# Altium footprint library Bridge.PcbLib: 7 footprints
Each footprint in its own frame and in the unit in brackets; x right, y up, seen from the top. Pads: shape width x height; smd on the part's side, far side on the other; paste and mask are expansions set on the pad; w line width, h text height; cw(c..) or ccw(c..) is an arc to the next point about the centre after c.
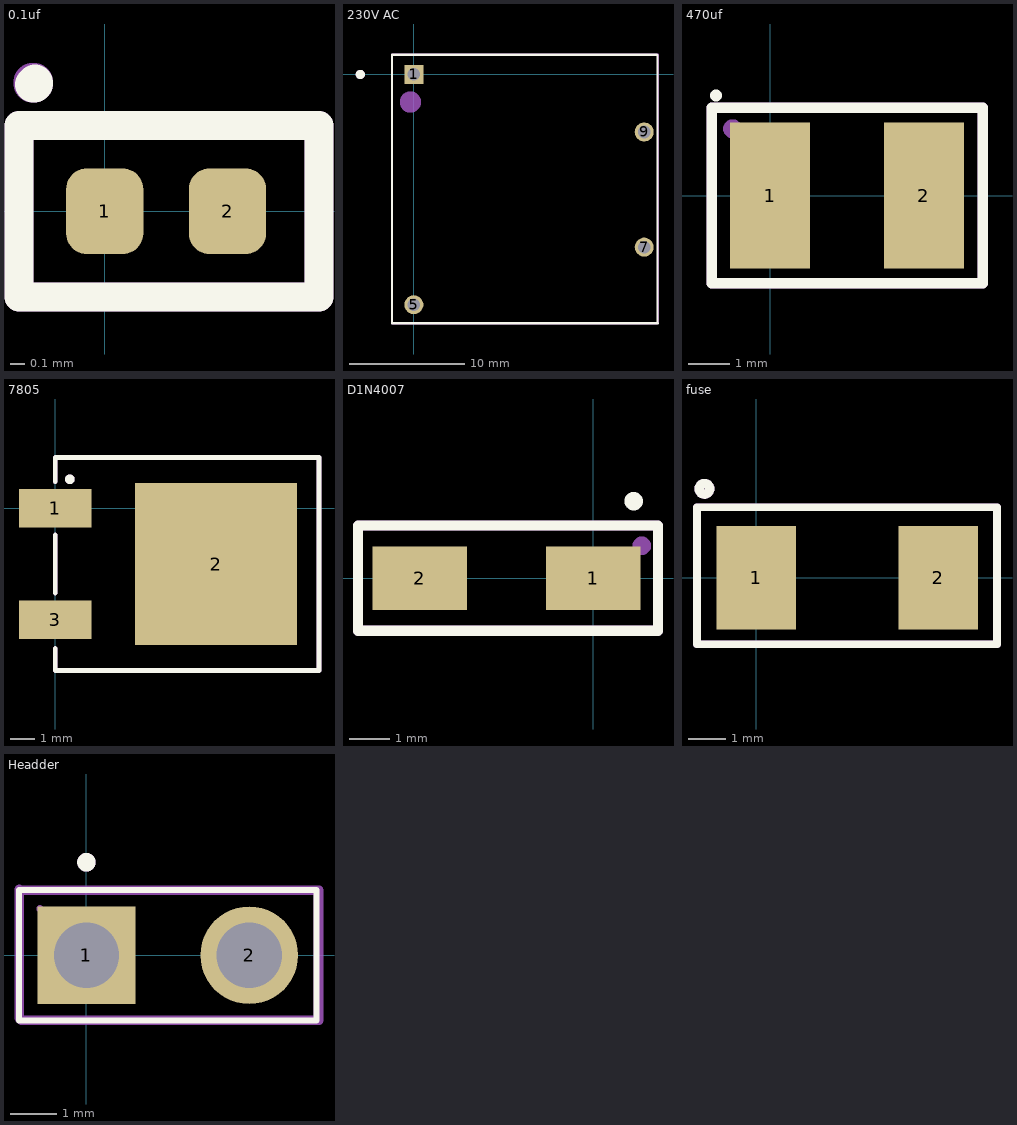
[diagram p0: the footprints below, top view; thin cyan lines are the x and y axes]

## 0.1uf [mm]
pads (2):
  rrect53% 0.54x0.6 smd: 1(0,0) 2(0.86,0)
Top Overlay:
  lines w0.203: -0.6,-0.6 1.5,-0.6 1.5,0.6 -0.6,0.6 -0.6,-0.6
  lines w0.254: -0.5,0.887 ccw(c-0.5,0.9) -0.487,0.9
Mechanical 29 (Mech29):
  circle w0.254: c-0.5,0.9 r0.013
  lines w0.203: -0.6,-0.6 1.5,-0.6 1.5,0.6 -0.6,0.6 -0.6,-0.6
  text ".Designator" at -0.449,-0.165 h0.25
3D body "CC0402N_YAG.step": height 0.52, standoff 0.01, extent -0.078,-0.356 0.938,0.355

## 230V AC [mm]
pads (4):
  rect 1.65x1.65 hole 1.1: 1(0,0)
  round 1.65 hole 1.1: 5(0,-20) 7(20,-15) 9(20,-5)
Top Overlay:
  circle w0.4: c-4.65,0 r0.2
  lines w0.203: -1.9,-21.6 -1.9,1.7 21.106,1.7 21.153,1.653 21.153,-21.553 21.2,-21.6 -1.9,-21.6
Mechanical 29:
  circle w0.4: c-4.65,0 r0.2
Mechanical 29 (Mech29):
  circle w1.27: c-0.3,-2.4 r0.283
  lines w0.203: -1.9,-21.6 -1.9,1.7 21.2,1.7 21.2,-21.514 21.114,-21.6 -1.9,-21.6
  text ".Designator" at 2.654,-11.123 h1.27
3D body "RAC05-12SK-277--3DModel-STEP-1.STEP": height 21.81, standoff -3.99, extent -3.397,-25.927 23.303,5.773

## 470uf [mm]
pads (2):
  rect 1.92x3.51 smd: 1(0,0) 2(3.684,0)
Top Overlay:
  circle w0.254: c-1.3,2.4 r0.013
  lines w0.254: -1.4,-2.1 -1.4,2.1 5.1,2.1 5.1,-2.1 -1.4,-2.1
Mechanical 29 (Mech29):
  circle w0.254: c-0.9,1.6 r0.1
  lines w0.254: -1.4,-2.1 -1.4,2.1 5.1,2.1 5.1,-2.1 -1.4,-2.1
  text ".Designator" at 0.054,-0.323 h1.27
3D body "AMK432BJ477MM-T--3DModel-STEP-46669.STEP": height 2.68, standoff -0.02, extent -0.25,-1.6 4.25,1.6

## 7805 [mm]
pads (3):
  rect 3x1.6 smd: 1(0,0) 3(0,-4.6)
  rect 6.7x6.7 smd: 2(6.65,-2.3)
Top Overlay:
  circle w0.2: c0.6,1.2 r0.1
  lines w0.203: 0,-5.8 0,-6.7 10.9,-6.7 10.9,2.1 0,2.1 0,1.1 ; 0,-3.5 0,-1.1
Top Paste:
  region: 7.44,-3.09 5.86,-3.09 5.86,-1.51 7.44,-1.51
  region: 7.44,-0.86 5.86,-0.86 5.86,0.72 7.44,0.72
  region: 7.44,-5.32 5.86,-5.32 5.86,-3.74 7.44,-3.74
  region: 5.21,-3.09 3.63,-3.09 3.63,-1.51 5.21,-1.51
  region: 5.21,-0.86 3.63,-0.86 3.63,0.72 5.21,0.72
  region: 5.21,-5.32 3.63,-5.32 3.63,-3.74 5.21,-3.74
  region: 9.67,-3.09 8.09,-3.09 8.09,-1.51 9.67,-1.51
  region: 9.67,-0.86 8.09,-0.86 8.09,0.72 9.67,0.72
  region: 9.67,-5.32 8.09,-5.32 8.09,-3.74 9.67,-3.74
Mechanical 29:
  circle w0.2: c0.6,1.2 r0.1
  lines w0.203: 0,-5.8 0,-6.7 10.9,-6.7 10.9,2.1 0,2.1 0,1.1 ; 0,-3.5 0,-1.1
  text ".Designator" at 2.754,-2.623 h1.27
3D body "DPAK_STM.step": height 2.48, standoff 0.01, extent 0.542,-5.602 9.308,1.002

## D1N4007 [mm]
pads (2):
  rect 2.33x1.56 smd: 1(0,0) 2(-4.28,0)
Top Overlay:
  circle w0.254: c1,1.9 r0.1
  lines w0.254: -5.8,-1.3 1.6,-1.3 1.6,1.3 -5.8,1.3 -5.8,-1.3
Mechanical 29:
  circle w0.254: c1.2,0.8 r0.1
  lines w0.254: -5.8,-1.3 1.6,-1.3 1.6,1.3 -5.8,1.3 -5.8,-1.3
  text ".Designator" at -3.097,-0.301 h0.89
3D body "S1M--3DModel-STEP-56544.STEP": height 2.67, standoff -0.03, extent -4.5,-1.363 0.7,1.362

## fuse [mm]
pads (2):
  rect 2.15x2.8 smd: 1(0,0) 2(4.91,0)
Top Overlay:
  circle w0.254: c-1.4,2.4 r0.141
  lines w0.203: -1.6,-1.8 6.5,-1.8 6.5,1.9 -1.6,1.9 -1.6,-1.8
Mechanical 29 (Mech29):
  circle w0.254: c-1.4,2.4 r0.141
  lines w0.203: -1.6,-1.8 -1.6,1.9 6.5,1.9 6.5,-1.8 -1.6,-1.8
  text ".Designator" at -0.546,-0.323 h1.27
3D body "0679L1000-01.STEP": height 2.8, standoff 0.01, extent -0.55,-1.27 5.55,1.27

## Headder [mm]
pads (2):
  rect 2.1x2.1 hole 1.4: 1(0,0)
  round 2.1 hole 1.4: 2(3.5,0)
Top Overlay:
  circle w0.2: c0,2 r0.1
  lines w0.127: -1.45,-1.4 4.95,-1.4 4.95,1.4 -1.45,1.4 -1.45,-1.4
Mechanical 29:
  circle w0.2: c0,2 r0.1
  lines w0.127: -1.45,-1.4 4.95,-1.4 4.95,1.4 -1.45,1.4 -1.45,-1.4
Mechanical 29 (Mech29):
  circle w0.127: c-1,1 r0.013
  lines w0.203: -1.448,1.415 -1.448,-1.348 -1.397,-1.4 5,-1.4 5,1.4 -1.434,1.4
  text ".Designator" at -1.046,-1.023 h1.27
3D body "1986717-2--3DModel-STEP-1.STEP": height 9.01, standoff -3.49, extent -1.497,-1.396 4.903,1.404